# Altium footprint library RF Filter.PcbLib: 3 footprints
Each footprint in its own frame and in the unit in brackets; x right, y up, seen from the top. Pads: shape width x height; smd on the part's side, far side on the other; paste and mask are expansions set on the pad; w line width, h text height; cw(c..) or ccw(c..) is an arc to the next point about the centre after c.
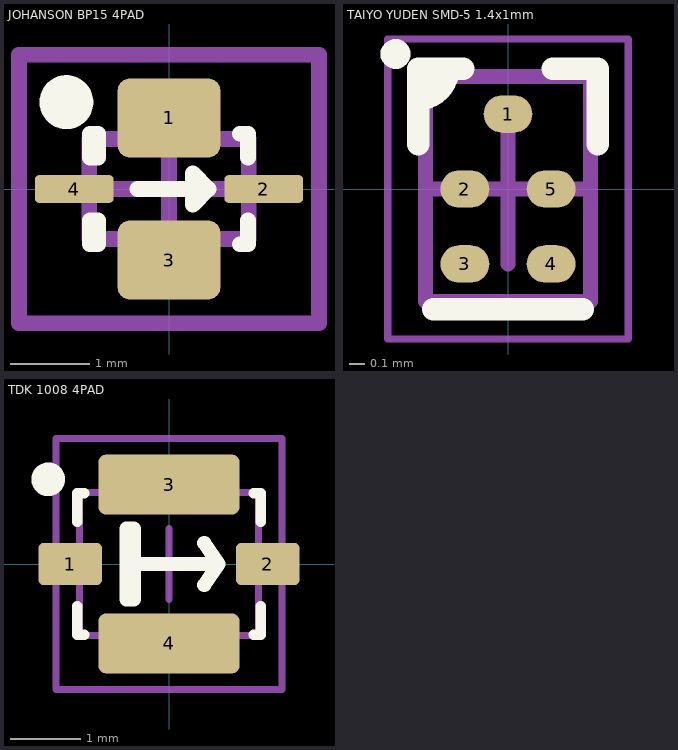
[diagram p0: the footprints below, top view; thin cyan lines are the x and y axes]

## JOHANSON BP15 4PAD [mm] "Johanson RF Filter"
height 0.95
pads (4):
  rrect30% 1.3x1 smd: 1(0,0.9) 3(0,-0.9)
  rrect30% 1x0.35 smd: 2(1.2,0) 4(-1.2,0)
Top Overlay:
  circle w0.4: c-1.3,1.1 r0.141
  lines w0.2: -0.4,0 0.5,0 ; 0.9,-0.7 1,-0.7 1,-0.4 ; 0.9,0.7 1,0.7 1,0.4 ; 0.5,0 0.3,0.2 0.3,-0.2 0.5,0 ; -1,-0.7 -0.9,-0.7 -0.9,-0.4 -1,-0.4 -1,-0.7 ; -1,0.4 -1,0.7 -0.9,0.7 -0.9,0.4 -1,0.4
Mechanical 1:
  lines w0.2: -1.01,-0.635 -1.01,0.635 1.01,0.635 1.01,-0.635 -1.01,-0.635
Mechanical 15:
  lines w0.2: -1,0 1,0 ; 0,-1 0,1 ; -1.9,-1.7 1.9,-1.7 1.9,1.7 -1.9,1.7 -1.9,0 -1.9,-1.7
3D body: height 0.96, standoff -0.01, extent -1.01,-0.635 1.01,0.635

## TAIYO YUDEN SMD-5 1.4x1mm [mm] "5-SMD 5 Leads 1.4 x 1.0 SAW Filter"
height 0.5
pads (5):
  oval 0.325x0.25 smd: 1(0,0.5) 2(-0.288,0) 3(-0.288,-0.5) 4(0.288,-0.5) 5(0.288,0)
Top Overlay:
  circle w0.1: c-0.75,0.9 r0.05
  region: -0.45,0.8 -0.6,0.8 -0.6,0.6 -0.4,0.8
  lines w0.15: -0.6,0.3 -0.6,0.8 -0.3,0.8 ; -0.6,0.6 ccw(c-0.6,0.8) -0.4,0.8 ; -0.5,-0.8 0.5,-0.8 ; 0.3,0.8 0.6,0.8 0.6,0.3
Mechanical 13:
  lines w0.1: -0.55,-0.75 -0.55,0.75 0.55,0.75 0.55,-0.75 -0.55,-0.75
Mechanical 15:
  lines w0.05: -0.8,-1 -0.8,1 0.8,1 0.8,-1 -0.8,-1
  lines w0.1: -0.5,0 0.5,0 ; 0,-0.5 0,0.5
3D body: height 0.2, standoff 0, extent -0.55,-0.75 0.55,0.75
3D body: height 0.5, standoff 0, extent -0.525,-0.725 0.525,0.725

## TDK 1008 4PAD [mm] "1008 4PC Pin RF Filter Chip"
height 1
pads (4):
  rrect25% 0.9x0.6 smd: 1(-1.4,0) 2(1.4,0)
  rrect25% 2x0.85 smd: 3(0,1.125) 4(0,-1.125)
Top Overlay:
  circle w0.254: c-1.712,1.2 r0.112
  lines w0.15: -1.3,-0.6 -1.3,-1 -1.2,-1 ; -1.3,0.6 -1.3,1 -1.2,1 ; 1.2,-1 1.3,-1 1.3,-0.6 ; 1.2,1 1.3,1 1.3,0.6
  lines w0.2: -0.6,0 0.7,0 ; 0.5,-0.3 0.7,0 ; 0.5,0.3 0.7,0 ; -0.6,-0.5 -0.6,0.5 -0.5,0.5 -0.5,-0.5 -0.6,-0.5
Mechanical 13:
  lines w0.1: -1.27,-1.016 1.27,-1.016 1.27,1.016 -1.27,1.016 -1.27,-1.016
Mechanical 15:
  lines w0.1: -0.5,0 0.5,0 ; 0,-0.5 0,0.5 ; -1.6,-1.775 1.6,-1.775 1.6,1.775 -1.6,1.775 -1.6,-1.775
3D body: height 0.89, standoff -0.01, extent -1.25,-1 1.25,1